# EAGLE library part 7SEGMENT-4DIGIT-056-12PIN (library Komputronika)
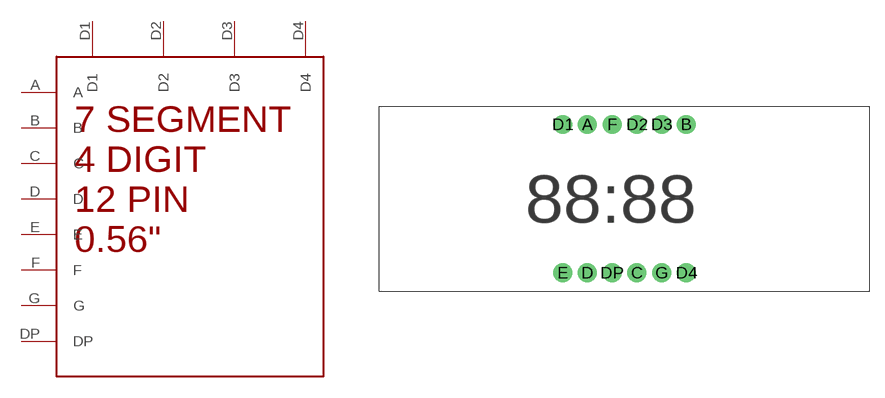
[diagram p40: symbol with the pads of 7SEGMENT-4DIGIT-056-12PIN; footprint 7SEGMENT-4DIGIT-056-12PIN]

Designator prefix -

## 7SEGMENT-4DIGIT-056-12PIN  [7SEGMENT-4DIGIT-056-12PIN]
A  A
B  B
C  C
D  D
D1  D1
D2  D2
D3  D3
D4  D4
DP  DP
E  E
F  F
G  G

## Footprint 7SEGMENT-4DIGIT-056-12PIN (pad centres in mm)
drill 0.8 pad 1.93: A -3.81,8.62; B 6.35,8.62; C 1.27,-6.62; D -3.81,-6.62; D1 -6.35,8.62; D2 1.27,8.62; D3 3.81,8.62; D4 6.35,-6.62; DP -1.27,-6.62; E -6.35,-6.62; F -1.27,8.62; G 3.81,-6.62